# Altium schematic symbol library MD01000.SchLib: 1 symbol
Pins are listed as number, name and electrical type; pins without a type are passive.

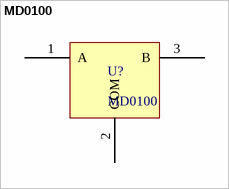
[diagram p0: symbol MD0100]

## MD0100
designator U?
footprint AMP_PHA-1+
pins: 1 A, 2 COM, 3 B